# Altium footprint library General Components.PcbLib: 16 footprints
Each footprint in its own frame and in the unit in brackets; x right, y up, seen from the top. Pads: shape width x height; smd on the part's side, far side on the other; paste and mask are expansions set on the pad; w line width, h text height; cw(c..) or ccw(c..) is an arc to the next point about the centre after c.
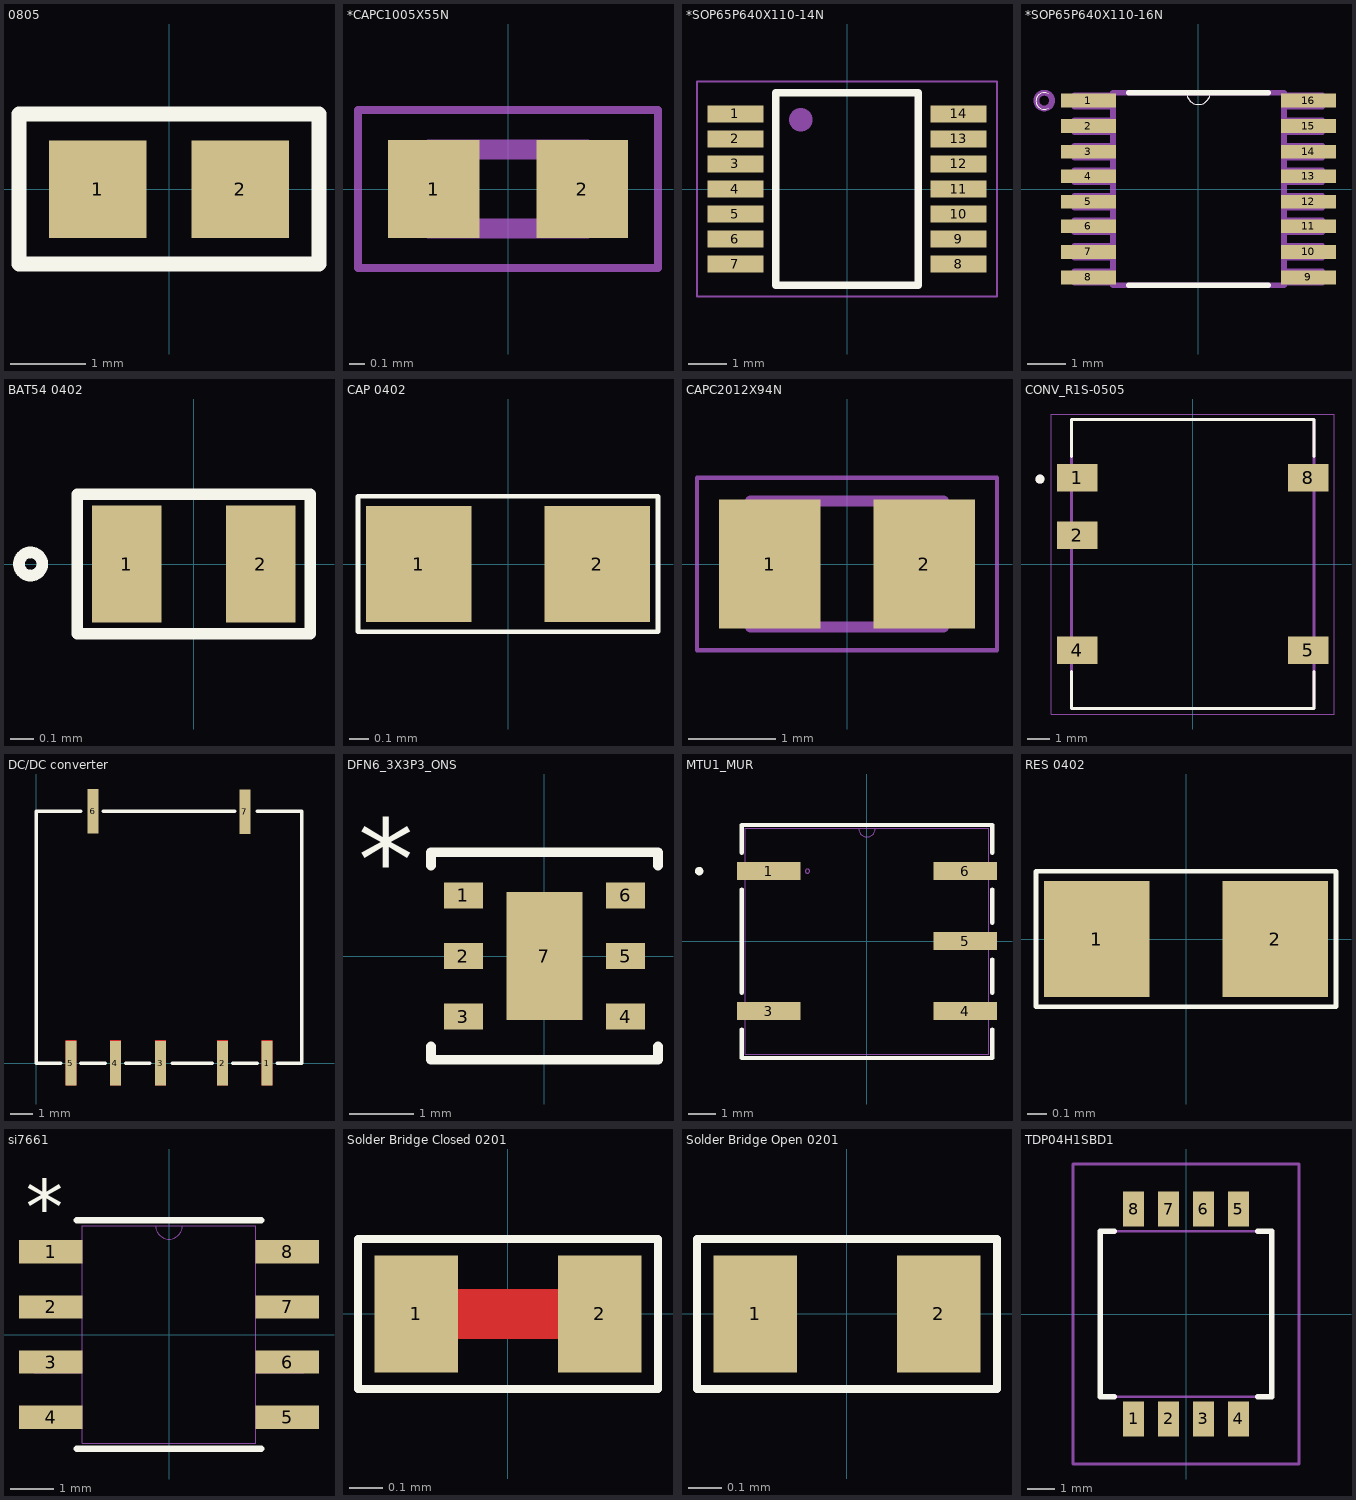
[diagram p0: the footprints below, top view; thin cyan lines are the x and y axes]

## 0805 [mm]
pads (2):
  rect 1.3x1.3 smd: 1(-0.95,0) 2(0.95,0)
Top Overlay:
  lines w0.2: -2,-1 2,-1 2,1 -2,1 -2,-1
3D body "0805.step": height 1.1, standoff 0, extent -1.1,-0.725 1.1,0.725

## *CAPC1005X55N [mm]
pads (2):
  rect 0.58x0.62 smd: 1(-0.47,0) 2(0.47,0)
Mechanical 4:
  region: 0.25,0.25 0.5,0.25 0.5,-0.25 0.25,-0.25
  region: -0.501,0.25 -0.25,0.25 -0.25,-0.25 -0.501,-0.25
  region: 0.25,0.25 0.5,0.25 0.5,-0.25 0.25,-0.25
  region: -0.501,0.25 -0.25,0.25 -0.25,-0.25 -0.501,-0.25
  lines w0.127: -0.5,-0.25 -0.5,0.25 ; -0.5,-0.25 0.5,-0.25 ; -0.5,-0.25 -0.5,0.25 ; -0.5,-0.25 0.5,-0.25 ; -0.5,0.25 0.5,0.25 ; -0.5,0.25 0.5,0.25 ; 0.5,-0.25 0.5,0.25 ; 0.5,-0.25 0.5,0.25
Mechanical 16:
  lines w0.05: -0.95,-0.5 -0.95,0.5 0.95,0.5 0.95,-0.5 -0.95,-0.5

## *SOP65P640X110-14N [mm]
pads (14):
  rect 1.45x0.45 smd: 1(-2.9,1.95) 2(-2.9,1.3) 3(-2.9,0.65) 4(-2.9,0) 5(-2.9,-0.65) 6(-2.9,-1.3) 7(-2.9,-1.95) 8(2.9,-1.95) 9(2.9,-1.3) 10(2.9,-0.65) 11(2.9,0) 12(2.9,0.65) 13(2.9,1.3) 14(2.9,1.95)
Top Overlay:
  lines w0.2: -1.85,-2.5 1.85,-2.5 1.85,2.5 -1.85,2.5 -1.85,-2.5
Mechanical 4:
  drawing of 2 lines, arcs and shapes, not listed
Mechanical 16:
  lines w0.05: -3.9,-2.8 3.9,-2.8 3.9,2.8 -3.9,2.8 -3.9,-2.8

## *SOP65P640X110-16N [mil]
pads (16):
  rect 56x14 smd: 1(-112,90) 2(-112,64) 3(-112,38) 4(-112,13) 5(-112,-13) 6(-112,-38) 7(-112,-64) 8(-112,-90) 9(112,-90) 10(112,-64) 11(112,-38) 12(112,-13) 13(112,13) 14(112,38) 15(112,64) 16(112,90)
Top Overlay:
  lines w0: -152.93,82.03 cw(c-156.9,89.5) -152.93,96.97 ccw(c-156.9,89.5) -152.93,82.03 ; -12,98 ccw(c0,98) 12,98 cw(c0,98) -12,98
  lines w6: -71,-98 71,-98 ; -71,98 -12,98 12,98 71,98
Mechanical 4:
  drawing of 152 lines, arcs and shapes, not listed
3D body "ADC128S052CIMT.STEP": height 46.26, standoff -0.98, extent -125.98,-98.43 125.99,98.43

## BAT54 0402 [mil]
pads (2):
  rect 12x20 smd paste+0 mask+0: 1(-11.5,0) 2(11.5,0)
Top Overlay:
  circle w2: c-28,0 r2
  lines w2: -20,-12 -20,12 20,12 20,-12 -20,-12
3D body: height 10, standoff 0, extent 0,0 10,10
3D body "DIODE_X1-DFN1006-2_P6X1_DIO.step": height 21.1, standoff 0, extent -20.99,-12.01 20.99,12.01

## CAP 0402 [mil]
pads (2):
  rect 21.87x24 smd paste+0 mask+0: 1(-18.44,0) 2(18.44,0)
Top Overlay:
  lines w1: -31,-14 -31,14 31,14 31,-14 -31,-14
3D body "0402Res.step": height 15.98, standoff 0, extent -21.5,-12.01 21.5,12.01
3D body "0402Res.step": height 15.98, standoff 0, extent -21.49,-12 21.5,12.01
3D body: height 10, standoff 0, extent 0,0 10,10
3D body "0402Cap.step": height 15.98, standoff 0, extent -21.5,-12.01 21.5,12.01
3D body "0402Cap.step": height 15.98, standoff 0, extent -21.5,-12.01 21.5,12.01

## CAPC2012X94N [mm]
pads (2):
  rect 1.16x1.47 smd: 1(-0.88,0) 2(0.88,0)
Mechanical 13:
  lines w0.127: -1.1,-0.72 1.1,-0.72 1.1,0.72 -1.1,0.72 -1.1,-0.72
Mechanical 15:
  lines w0.05: -1.713,-0.983 1.713,-0.983 1.713,0.983 -1.713,0.983 -1.713,-0.983
3D body "C0805C106K8PAC7800.step": height 1.23, standoff -0.04, extent -1.016,-0.7 1.016,0.697

## CONV_R1S-0505 [mm]
pads (5):
  rect 1.8x1.2 smd: 1(-5.1,3.81) 2(-5.1,1.27) 4(-5.1,-3.81) 5(5.1,-3.81) 8(5.1,3.81)
Top Overlay:
  circle w0.2: c-6.75,3.75 r0.1
  lines w0.127: -5.35,-4.74 -5.35,-6.375 5.35,-6.375 5.35,-4.74 ; -5.35,4.74 -5.35,6.375 5.35,6.375 5.35,4.74
Mechanical 13:
  circle w0.2: c-6.75,3.75 r0.1
  lines w0.127: -5.35,-6.375 5.35,-6.375 5.35,6.375 -5.35,6.375 -5.35,-6.375
Mechanical 15:
  lines w0.05: -6.25,-6.625 6.25,-6.625 6.25,6.625 -6.25,6.625 -6.25,-6.625
3D body: height 7, standoff 0, extent -5.334,-6.35 5.334,6.35

## DC/DC converter [mm]
pads (7):
  rect 0.5x2 smd: 1(10.35,0) 2(8.35,0) 3(5.575,0) 4(3.55,0) 5(1.55,0) 6(2.55,11.3) 7(9.35,11.275)
Top Layer:
  rectangle: 5.325,-1 5.825,1.05
  rectangle: 1.3,-1 1.8,1.05
  rectangle: 10.1,-1 10.6,1.05
  rectangle: 8.1,-1 8.6,1.05
  rectangle: 3.3,-1 3.8,1.05
Top Overlay:
  lines w0.15: 1.1,0 0,0 0,11.3 2,11.3 ; 2,0 3.1,0 ; 3,11.3 8.9,11.3 ; 4,0 5.1,0 ; 6.1,0 7.9,0 ; 8.8,0 9.9,0 ; 9.9,11.3 11.9,11.3 11.9,0 10.8,0
Top Solder:
  region: 5.925,1.15 5.225,1.15 5.225,-1.15 5.925,-1.15
  region: 1.9,1.15 1.2,1.15 1.2,-1.15 1.9,-1.15
  region: 10.7,1.15 10,1.15 10,-1.15 10.7,-1.15
  region: 8.7,1.15 8,1.15 8,-1.15 8.7,-1.15
  region: 3.9,1.15 3.2,1.15 3.2,-1.15 3.9,-1.15
3D body: height 7.6, standoff 0.4, extent 0.1,0.1 11.8,11.2

## DFN6_3X3P3_ONS [mil]
pads (7):
  rect 24x16 smd paste+0 mask+0: 1(-50,37.4) 2(-50,0) 3(-50,-37.4) 4(50,-37.4) 5(50,0) 6(50,37.4)
  rect 47x79 smd paste+0 mask+0: 7(0,0)
Top Overlay:
  lines w6: -70,-55.78 -70,-64 70,-64 70,-55.78 ; -70,55.78 -70,64 70,64 70,55.78
  text "*" at -115,35 h50
3D body "DFN6_3X3P3_ONS.step": height 35.12, standoff 0, extent -65,-59.01 65,59.01
3D body: height 10, standoff 0, extent 0,0 10,10

## MTU1_MUR [mil]
pads (5):
  rect 90.81x26.03 smd paste+0 mask+0: 1(-140.41,100.5) 3(-140.41,-99.5) 4(140.41,-99.5) 5(140.41,0.5) 6(140.41,100.5)
Top Overlay:
  circle w6: c-239.81,100.5 r3
  lines w6: -179,-125.62 -179,-166.5 179,-166.5 179,-125.62 ; -179,-73.38 -179,74.38 ; -179,126.62 -179,166.5 179,166.5 179,126.62 ; 179,-73.38 179,-25.62 ; 179,26.62 179,74.38
Mechanical 13:
  circle w0: c-85,100.5 r3
  lines w0: -12,161.5 ccw(c0,161.5) 12,161.5
  lines w1: -174,-161.5 -174,161.5 174,161.5 174,-161.5 -174,-161.5 ; -174,-113.5 -174,-85.5 -174,-113.5 ; -174,-13.5 -174,14.5 -174,-13.5 ; -174,86.5 -174,114.5 -174,86.5 ; 174,-113.5 174,-85.5 174,-113.5 ; 174,-13.5 174,14.5 174,-13.5 ; 174,86.5 174,114.5 174,86.5
3D body: height 334.65, standoff 0, extent -175,-160 175,160
3D body: height 10, standoff 0, extent 0,0 10,10

## RES 0402 [mil]
pads (2):
  rect 21.87x24 smd paste+0 mask+0: 1(-18.44,0) 2(18.44,0)
Top Overlay:
  lines w1: -31,-14 31,-14 31,14 -31,14 -31,-14
3D body: height 10, standoff 0, extent 0,0 10,10
3D body "Res 0402.step": height 27.99, standoff 0, extent -20.67,-9.84 20.67,9.84
3D body "Res 0402.step": height 27.99, standoff 0, extent -20.67,-9.84 20.67,9.84

## si7661 [mil]
pads (8):
  rect 57.5x21 smd paste+0 mask+0: 1(-107.25,75) 2(-107.25,25) 3(-107.25,-25) 4(-107.25,-75) 5(107.25,-75) 6(107.25,-25) 7(107.25,25) 8(107.25,75)
Top Overlay:
  lines w6: -83.5,-103.5 83.5,-103.5 ; -83.5,103.5 83.5,103.5
  text "*" at -129.75,91 h50
Mechanical 13:
  lines w0: -12,98.5 ccw(c0,98.5) 12,98.5
  lines w1: -122,-84.5 -122,-65.5 -78.5,-65.5 -78.5,-84.5 -122,-84.5 ; -122,-34.5 -122,-15.5 -78.5,-15.5 -78.5,-34.5 -122,-34.5 ; -122,15.5 -122,34.5 -78.5,34.5 -78.5,15.5 -122,15.5 ; -122,65.5 -122,84.5 -78.5,84.5 -78.5,65.5 -122,65.5 ; -78.5,-98.5 78.5,-98.5 78.5,98.5 -78.5,98.5 -78.5,-98.5 ; 78.5,-84.5 78.5,-65.5 122,-65.5 122,-84.5 78.5,-84.5 ; 78.5,-34.5 78.5,-15.5 122,-15.5 122,-34.5 78.5,-34.5 ; 78.5,15.5 78.5,34.5 122,34.5 122,15.5 78.5,15.5 ; 78.5,65.5 78.5,84.5 122,84.5 122,65.5 78.5,65.5
  text "*" at -76,45.5 h50
3D body: height 10, standoff 0, extent 0,0 10,10
3D body "si7661.step": height 69.09, standoff 0, extent -122,-98.5 122.01,98.5

## Solder Bridge Closed 0201 [mm]
pads (2):
  rect 0.25x0.35 smd paste+0 mask+0: 1(-0.275,0) 2(0.275,0)
Top Layer:
  lines w0.15: -0.275,0 0.275,0
Top Overlay:
  lines w0.025: -0.45,-0.225 -0.45,0.225 0.45,0.225 0.45,-0.225 -0.45,-0.225
Top Solder:
  rectangle: -0.15,-0.175 0.15,0.175

## Solder Bridge Open 0201 [mm]
pads (2):
  rect 0.25x0.35 smd paste+0 mask+0: 1(-0.275,0) 2(0.275,0)
Top Overlay:
  lines w0.025: -0.45,-0.225 0.45,-0.225 0.45,0.225 -0.45,0.225 -0.45,-0.225
Top Solder:
  rectangle: -0.15,-0.175 0.15,0.175

## TDP04H1SBD1 [mm]
pads (8):
  rect 0.76x1.27 smd: 1(-1.905,-3.81) 2(-0.635,-3.81) 3(0.635,-3.81) 4(1.905,-3.81) 5(1.905,3.81) 6(0.635,3.81) 7(-0.635,3.81) 8(-1.905,3.81)
Top Overlay:
  lines w0.2: -2.6,-3 -3.105,-3 -3.105,3 -2.6,3 ; 2.6,-3 3.105,-3 3.105,3 2.6,3
Mechanical 13:
  lines w0.1: -3.105,-3 3.105,-3 3.105,3 -3.105,3 -3.105,-3
Mechanical 15:
  lines w0.1: -4.105,-5.445 4.105,-5.445 4.105,5.445 -4.105,5.445 -4.105,-5.445
3D body "TDP04H1SBD1.stp": height 4.36, standoff -0.04, extent -3.085,-4.135 3.125,3.985